# Altium footprint library Panorama_V_0_0_1.PcbLib: 20 footprints (part 2 of 2)
Each footprint in its own frame and in the unit in brackets; x right, y up, seen from the top. Pads: shape width x height; smd on the part's side, far side on the other; paste and mask are expansions set on the pad; w line width, h text height; cw(c..) or ccw(c..) is an arc to the next point about the centre after c.
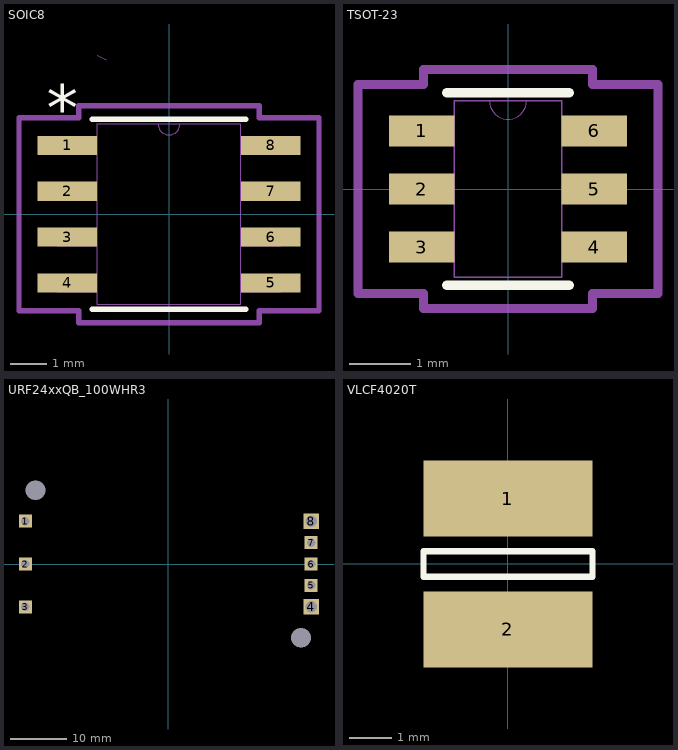
[diagram p1: the footprints below, top view; thin cyan lines are the x and y axes]

## SOIC8 [mm]
height 2.05
pads (8):
  rect 1.655x0.533 smd paste+0 mask+0: 1(-2.821,1.905) 2(-2.821,0.635) 3(-2.821,-0.635) 4(-2.821,-1.905) 5(2.821,-1.905) 6(2.821,-0.635) 7(2.821,0.635) 8(2.821,1.905)
Top Overlay:
  lines w0.152: -2.121,-2.629 2.121,-2.629 ; -2.121,2.629 2.121,2.629
  text "*" at -3.393,2.311 h1.27
Mechanical 7:
  lines w0.025: -1.994,4.407 -1.74,4.28
Mechanical 13:
  lines w0: -0.305,2.502 ccw(c0,2.502) 0.305,2.502
  lines w0.025: -3.099,-2.146 -1.994,-2.146 -1.994,-1.664 -3.099,-1.664 -3.099,-2.146 ; -3.099,-0.876 -1.994,-0.876 -1.994,-0.394 -3.099,-0.394 -3.099,-0.876 ; -3.099,0.394 -1.994,0.394 -1.994,0.876 -3.099,0.876 -3.099,0.394 ; -3.099,1.664 -1.994,1.664 -1.994,2.146 -3.099,2.146 -3.099,1.664 ; -1.994,-2.502 -1.994,2.502 1.994,2.502 1.994,-2.502 -1.994,-2.502 ; 1.994,-2.146 3.099,-2.146 3.099,-1.664 1.994,-1.664 1.994,-2.146 ; 1.994,-0.876 3.099,-0.876 3.099,-0.394 1.994,-0.394 1.994,-0.876 ; 1.994,0.394 3.099,0.394 3.099,0.876 1.994,0.876 1.994,0.394 ; 1.994,1.664 3.099,1.664 3.099,2.146 1.994,2.146 1.994,1.664
  text "*" at -1.93,1.156 h1.27
Mechanical 15:
  lines w0.152: -4.157,-2.679 -2.502,-2.679 -2.502,-3.01 2.502,-3.01 2.502,-2.679 4.157,-2.679 4.157,2.679 2.502,2.679 2.502,3.01 -2.502,3.01 -2.502,2.679 -4.157,2.679 -4.157,-2.679
3D body "21-0041B_8_MXM-M.step": height 1.76, standoff 0, extent -3.099,-2.502 3.099,2.502
3D body: height 0.25, standoff 0, extent 0,0 0.254,0.254

## TSOT-23 [mm]
height 2.05
pads (6):
  rect 1.071x0.507 smd paste+0 mask+0: 1(-1.412,0.95) 2(-1.412,0) 3(-1.412,-0.95) 4(1.412,-0.95) 5(1.412,0) 6(1.412,0.95)
Top Overlay:
  lines w0.152: -1.003,-1.575 1.003,-1.575 ; -1.003,1.575 1.003,1.575
Mechanical 13:
  lines w0: -0.305,1.448 ccw(c0,1.448) 0.305,1.448
  lines w0.025: -1.397,-1.179 -0.876,-1.179 -0.876,-0.721 -1.397,-0.721 -1.397,-1.179 ; -1.397,-0.229 -0.876,-0.229 -0.876,0.229 -1.397,0.229 -1.397,-0.229 ; -1.397,0.721 -0.876,0.721 -0.876,1.179 -1.397,1.179 -1.397,0.721 ; -0.876,-1.448 -0.876,1.448 0.876,1.448 0.876,-1.448 -0.876,-1.448 ; 0.876,-1.179 1.397,-1.179 1.397,-0.721 0.876,-0.721 0.876,-1.179 ; 0.876,-0.229 1.397,-0.229 1.397,0.229 0.876,0.229 0.876,-0.229 ; 0.876,0.721 1.397,0.721 1.397,1.179 0.876,1.179 0.876,0.721
  text "*" at -2.032,1.27 h1.27
Mechanical 15:
  lines w0.152: -2.455,-1.712 -1.384,-1.712 -1.384,-1.956 1.384,-1.956 1.384,-1.712 2.455,-1.712 2.455,1.712 1.384,1.712 1.384,1.956 -1.384,1.956 -1.384,1.712 -2.455,1.712 -2.455,-1.712
3D body "TSOT-23_S6_LIT-M.step": height 0.99, standoff 0, extent -1.397,-1.448 1.397,1.448
3D body: height 0.25, standoff 0, extent 0,0 0.254,0.254

## URF24xxQB_100WHR3 [mm]
height 2.05
pads (10):
  rect 2.3x2.3 hole 1.5: 1(-25.4,7.62) 2(-25.4,0) 3(-25.4,-7.62) 5(25.4,-3.81) 6(25.4,0) 7(25.4,3.81)
  rect 2.8x2.8 hole 2: 4(25.4,-7.62) 8(25.4,7.62)
  round 1 hole 3.5: ""(-23.6,13.1)
  round 0 hole 3.5: ""(23.6,-13.1)
3D body "URF24_QB-100WHR3.stp": height 27.8, standoff -4.5, extent -30.9,-20.1 30.9,20.1

## VLCF4020T [mm]
height 2.05
pads (2):
  rect 4x1.8 smd: 1(0,1.55) 2(0,-1.55)
Top Overlay:
  lines w0.15: -2,-0.3 -2,0.3 2,0.3 2,-0.3 -2,-0.3
3D body "VLCF4020T.STEP": height 2, standoff 0, extent -2.007,-2.134 1.993,1.866